# Altium schematic symbol library LTC6409IUDB#TRMPBF.SchLib: 1 symbol
Pins are listed as number, name and electrical type; pins without a type are passive.

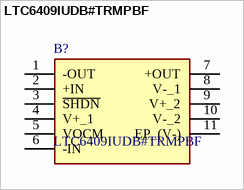
[diagram p0: symbol LTC6409IUDB#TRMPBF]

## LTC6409IUDB#TRMPBF
designator B?
High Speed Operational Amplifiers 10GHz GBW 1.1nV/rtHz Differential Amp; Manufacturer_Name: Analog Devices; Geometry.Height: 0.85mm; Mouser Part Number: 584-C6409IUDBTRMPBF; Mouser Price/Stock: https://www.mouser.co.uk/ProductDetail/Analog-Devices/LTC6409IUDBTRMPBF?qs=hVkxg5c3xu%252BCxcBUxz33zw%3D%3D; Manufacturer_Part_Number: LTC6409IUDB#TRMPBF; Datasheet Link: https://www.analog.com/media/en/technical-documentation/data-sheets/6409fb.pdf
footprint LTC6409IUDBTRMPBF
pins: 1 -OUT, 2 +IN, 3 ~{SHDN}, 4 V+_1, 5 VOCM, 6 -IN, 7 +OUT, 8 V-_1, 9 V+_2, 10 V-_2, 11 EP_(V-)